# Altium schematic symbol library 0.5 - 按键_开关_蜂鸣器_保险丝_电池_测试点_Mark点_铜柱.SchLib: 51 symbols
Pins are listed as number, name and electrical type; pins without a type are passive.

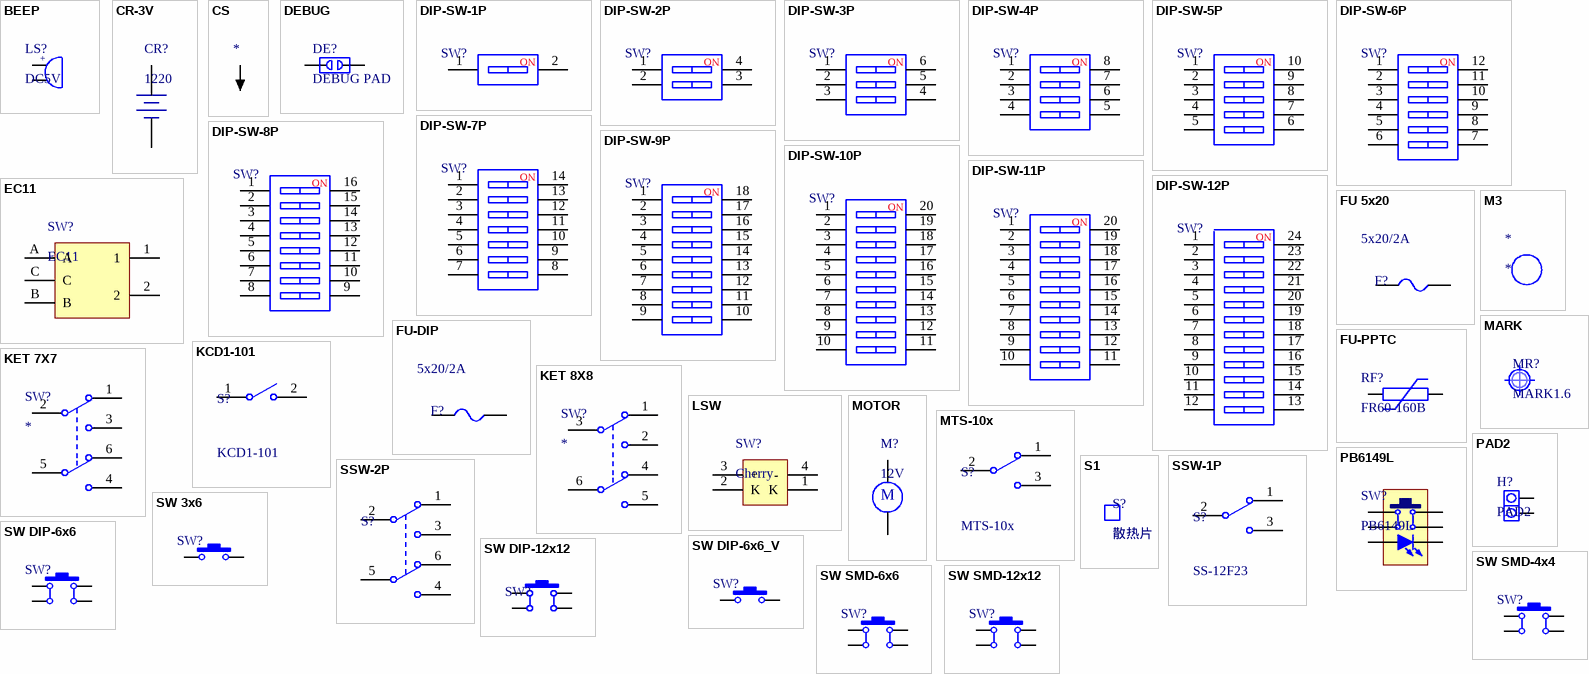
[diagram p0: symbols BEEP to SW SMD-12x12]

## BEEP
designator LS?, comment DC5V
蜂鸣器; 联系卖家，免费查找封装: 唯一出售店铺网址https://shop463601444.taobao.com; 封装库来自淘宝卖家：黄晶宝石: 其他店铺购入均为盗版封装库，请立即申请退款，本店现金奖励200~1000元; BOM名称: 蜂鸣器
footprint BEEP 6.5x12x6 (6.5*12*6mm(脚距,直径,高度))
footprint BEEP 5x9x5.5 (5*9*5.5mm(脚距,直径,高度))
footprint BEEP 6.5x12x8.5 (6.5*12*8.5mm(脚距,直径,高度))
footprint BEEP 7.6X12X7.5 (6.5*12*7.5mm(脚距,直径,高度))
footprint BEEP 7.6X12X9.5 (6.5*12*9.5mm(脚距,直径,高度))
pins: 1, 2
text: +

## CR-3V
designator CR?, comment 1220
微型电池; 联系卖家，免费查找封装: 唯一出售店铺网址https://shop463601444.taobao.com; 封装库来自淘宝卖家：黄晶宝石: 其他店铺购入均为盗版封装库，请立即申请退款，本店现金奖励200~1000元; BOM名称: 微型电池
footprint CR1220_A (纽扣电池座)
footprint CR1220_B (纽扣电池座)
footprint ML621FE (可充电纽扣电池)
footprint CR2032_A (纽扣电池座)
footprint CR2032_B (纽扣电池座)
pins: 1 DC+, 2 DC-

## CS
designator *
探针焊盘; 联系卖家，免费查找封装: 唯一出售店铺网址https://shop463601444.taobao.com; 封装库来自淘宝卖家：黄晶宝石: 其他店铺购入均为盗版封装库，请立即申请退款，本店现金奖励200~1000元; BOM名称: 探针焊盘
footprint R100 (R100探针焊盘)
pins: 1

## DEBUG
designator DE?, comment DEBUG PAD
调试断点焊盘; 联系卖家，免费查找封装: 唯一出售店铺网址https://shop463601444.taobao.com; 封装库来自淘宝卖家：黄晶宝石: 其他店铺购入均为盗版封装库，请立即申请退款，本店现金奖励200~1000元; BOM名称: 调试断点焊盘
footprint DEBUG_A (Footprint not found)
footprint DEBUG_B (调试断点焊盘)
pins: 1, 2

## DIP-SW-1P
designator SW?  (value not drawn)
1路编码开关; 联系卖家，免费查找封装: 唯一出售店铺网址https://shop463601444.taobao.com; 封装库来自淘宝卖家：黄晶宝石: 其他店铺购入均为盗版封装库，请立即申请退款，本店现金奖励200~1000元; BOM名称: 1路编码开关
footprint SW DIP-1P (4.1*9.9*7mm)
footprint SW DIP-1P_R (4.1*9.9*7mm)
pins: 1, 2
text: NO

## DIP-SW-2P
designator SW?  (value not drawn)
2路编码开关; 联系卖家，免费查找封装: 唯一出售店铺网址https://shop463601444.taobao.com; 封装库来自淘宝卖家：黄晶宝石: 其他店铺购入均为盗版封装库，请立即申请退款，本店现金奖励200~1000元; BOM名称: 2路编码开关
footprint SW DIP-2P (6.6*9.9*7mm)
footprint SW DIP-2P_R (6.6*9.9*7mm)
footprint SW1.27 SMD-2P (长：4.14mm，宽：5.4mm，高：2.3mm)
pins: 1, 2, 3, 4
text: NO

## DIP-SW-3P
designator SW?  (value not drawn)
3路编码开关; 联系卖家，免费查找封装: 唯一出售店铺网址https://shop463601444.taobao.com; 封装库来自淘宝卖家：黄晶宝石: 其他店铺购入均为盗版封装库，请立即申请退款，本店现金奖励200~1000元; BOM名称: 3路编码开关
footprint SW DIP-3P (9.2*9.9*7mm)
footprint SW DIP-3P_R (9.2*9.9*7mm)
footprint SW1.27 SMD-3P (长：5.41mm，宽：5.4mm，高：2.3mm           淘宝ID:黄晶宝石)
pins: 1, 2, 3, 4, 5, 6
text: NO

## DIP-SW-4P
designator SW?  (value not drawn)
4路编码开关; 联系卖家，免费查找封装: 唯一出售店铺网址https://shop463601444.taobao.com; 封装库来自淘宝卖家：黄晶宝石: 其他店铺购入均为盗版封装库，请立即申请退款，本店现金奖励200~1000元; BOM名称: 4路编码开关
footprint SW DIP-4P (11.7*9.9*7mm)
footprint SW DIP-4P_R (11.7*9.9*7mm)
footprint SW1.27 SMD-4P (长：6.68mm，宽：5.4mm，高：2.3mm)
pins: 1, 2, 3, 4, 5, 6, 7, 8
text: NO

## DIP-SW-5P
designator SW?  (value not drawn)
5路编码开关; 联系卖家，免费查找封装: 唯一出售店铺网址https://shop463601444.taobao.com; 封装库来自淘宝卖家：黄晶宝石: 其他店铺购入均为盗版封装库，请立即申请退款，本店现金奖励200~1000元; BOM名称: 5路编码开关
footprint SW DIP-5P (14.2*9.9*7mm)
footprint SW DIP-5P_R (14.2*9.9*7mm)
footprint SW1.27 SMD-5P (长：7.95mm，宽：5.4mm，高：2.3mm)
pins: 1, 2, 3, 4, 5, 6, 7, 8, 9, 10
text: NO

## DIP-SW-6P
designator SW?  (value not drawn)
6路编码开关; 联系卖家，免费查找封装: 唯一出售店铺网址https://shop463601444.taobao.com; 封装库来自淘宝卖家：黄晶宝石: 其他店铺购入均为盗版封装库，请立即申请退款，本店现金奖励200~1000元; BOM名称: 6路编码开关
footprint SW DIP-6P (16.8*9.9*7mm)
footprint SW DIP-6P_R (16.8*9.9*7mm)
footprint SW1.27 SMD-6P (长：9.22mm，宽：5.4mm，高：2.3mm)
pins: 1, 2, 3, 4, 5, 6, 7, 8, 9, 10, 11, 12
text: NO

## DIP-SW-7P
designator SW?  (value not drawn)
7路编码开关; 联系卖家，免费查找封装: 唯一出售店铺网址https://shop463601444.taobao.com; 封装库来自淘宝卖家：黄晶宝石: 其他店铺购入均为盗版封装库，请立即申请退款，本店现金奖励200~1000元; BOM名称: 7路编码开关
footprint SW DIP-7P (19.3*9.9*7mm)
footprint SW DIP-7P_G (Footprint not found)
pins: 1, 2, 3, 4, 5, 6, 7, 8, 9, 10, 11, 12, 13, 14
text: NO

## DIP-SW-8P
designator SW?  (value not drawn)
8路编码开关; 联系卖家，免费查找封装: 唯一出售店铺网址https://shop463601444.taobao.com; 封装库来自淘宝卖家：黄晶宝石: 其他店铺购入均为盗版封装库，请立即申请退款，本店现金奖励200~1000元; BOM名称: 8路编码开关
footprint SW DIP-8P (21.9*9.9*7mm)
footprint SW DIP-8P_R (21.9*9.9*7mm)
footprint SW1.27 SMD-8P (长：11.76mm，宽：5.4mm，高：2.3mm)
pins: 1, 2, 3, 4, 5, 6, 7, 8, 9, 10, 11, 12, 13, 14, 15, 16
text: NO

## DIP-SW-9P
designator SW?  (value not drawn)
9路编码开关; 联系卖家，免费查找封装: 唯一出售店铺网址https://shop463601444.taobao.com; 封装库来自淘宝卖家：黄晶宝石: 其他店铺购入均为盗版封装库，请立即申请退款，本店现金奖励200~1000元; BOM名称: 9路编码开关
footprint SW DIP-9P (21.4*9.9*7mm)
footprint SW DIP-9P_R (21.4*9.9*7mm)
pins: 1, 2, 3, 4, 5, 6, 7, 8, 9, 10, 11, 12, 13, 14, 15, 16, 17, 18
text: NO

## DIP-SW-10P
designator SW?  (value not drawn)
10路编码开关; 联系卖家，免费查找封装: 唯一出售店铺网址https://shop463601444.taobao.com; 封装库来自淘宝卖家：黄晶宝石: 其他店铺购入均为盗版封装库，请立即申请退款，本店现金奖励200~1000元; BOM名称: 10路编码开关
footprint SW DIP-10P (27*9.9*7mm)
footprint SW DIP-10P_R (27*9.9*7mm)
footprint SW1.27 SMD-10P (长：14.3mm，宽：5.4mm，高：2.3mm          淘宝ID:黄晶宝石)
pins: 1, 2, 3, 4, 5, 6, 7, 8, 9, 10, 11, 12, 13, 14, 15, 16, 17, 18, 19, 20
text: NO

## DIP-SW-11P
designator SW?  (value not drawn)
11路编码开关; BOM名称: 封装库来自淘宝 ID：黄晶宝石; 联系卖家，免费查找封装: 唯一出售店铺网址https://shop463601444.taobao.com; 封装库来自淘宝卖家：黄晶宝石: 其他店铺购入均为盗版封装库，请立即申请退款，本店现金奖励200~1000元
footprint SW DIP-11P (29.5*9.9*7mm           淘宝ID:黄晶宝石)
footprint SW DIP-11P_R (29.5*9.9*7mm            淘宝ID:黄晶宝石)
pins: 1, 2, 3, 4, 5, 6, 7, 8, 9, 10, 11, 12, 13, 14, 15, 16, 17, 18, 19, 20
text: NO

## DIP-SW-12P
designator SW?  (value not drawn)
12路编码开关; 联系卖家，免费查找封装: 唯一出售店铺网址https://shop463601444.taobao.com; 封装库来自淘宝卖家：黄晶宝石: 其他店铺购入均为盗版封装库，请立即申请退款，本店现金奖励200~1000元; BOM名称: 12路编码开关
footprint SW DIP-12P (32.1*9.9*7mm          淘宝ID:黄晶宝石)
footprint SW DIP-12P_R (32.1*9.9*7mm          淘宝ID:黄晶宝石)
pins: 1, 2, 3, 4, 5, 6, 7, 8, 9, 10, 11, 12, 13, 14, 15, 16, 17, 18, 19, 20, 21, 22, 23, 24
text: NO

## EC11
designator SW?
数字开关编码器; BOM名称: 数字编码开关; 联系卖家，免费查找封装: 唯一出售店铺网址https://shop463601444.taobao.com; 封装库来自淘宝卖家：黄晶宝石: 其他店铺购入均为盗版封装库，请立即申请退款，本店现金奖励200~1000元
footprint EC11 (数字开关编码器)
footprint EC11-B (数字开关编码器)
pins: 1, 2, A, B, C

## FU 5x20
designator F?, comment 5x20/2A
5*20保险丝; 联系卖家，免费查找封装: 唯一出售店铺网址https://shop463601444.taobao.com; 封装库来自淘宝卖家：黄晶宝石: 其他店铺购入均为盗版封装库，请立即申请退款，本店现金奖励200~1000元; BOM名称: 5*20保险丝
footprint FU BLX-A (BLX-A型保险丝座)
footprint FU 5x20 (5*20保险管底座夹子)
pins: 1, 2

## FU-DIP
designator F?, comment 5x20/2A
直插保险丝; 联系卖家，免费查找封装: 唯一出售店铺网址https://shop463601444.taobao.com; 封装库来自淘宝卖家：黄晶宝石: 其他店铺购入均为盗版封装库，请立即申请退款，本店现金奖励200~1000元; BOM名称: 直插保险丝
footprint FU 4x16 (4*16mm(直径，脚距）)
footprint FU 4x16_V (4*16mm(直径，脚距）)
pins: 1, 2

## FU-PPTC
designator RF?, comment FR60-160B
PPTC自恢复保险丝; 联系卖家，免费查找封装: 唯一出售店铺网址https://shop463601444.taobao.com; 封装库来自淘宝卖家：黄晶宝石: 其他店铺购入均为盗版封装库，请立即申请退款，本店现金奖励200~1000元; BOM名称: PPTC自恢复保险丝
footprint FR60-160B (直径15.5mm，厚度3mm，脚距5.1mm)
pins: 1, 2

## KCD1-101
designator S?
1路单刀船型开关; 联系卖家，免费查找封装: 唯一出售店铺网址https://shop463601444.taobao.com; 封装库来自淘宝卖家：黄晶宝石: 其他店铺购入均为盗版封装库，请立即申请退款，本店现金奖励200~1000元; BOM名称: 1路单刀船型开关
footprint KCD1-101 (船型开关立式)
pins: 1, 2

## KET 7X7
designator SW?
7*7自锁开关; 联系卖家，免费查找封装: 唯一出售店铺网址https://shop463601444.taobao.com; 封装库来自淘宝卖家：黄晶宝石: 其他店铺购入均为盗版封装库，请立即申请退款，本店现金奖励200~1000元; BOM名称: 7*7自锁开关
footprint KFT DIP-7X7 (自锁开关，规格：7*7mm)
pins: 1 NC1, 2 COM2, 3 NO1, 4 NO2, 5 COM2, 6 NC2

## KET 8X8
designator SW?
8*8自锁开关; 联系卖家，免费查找封装: 唯一出售店铺网址https://shop463601444.taobao.com; 封装库来自淘宝卖家：黄晶宝石: 其他店铺购入均为盗版封装库，请立即申请退款，本店现金奖励200~1000元; BOM名称: 8*8自锁开关
footprint KFT DIP-8X8 (自锁开关，规格：8*8mm)
pins: 1 NC1, 2 COM2, 3 NO1, 4 NO2, 5 COM2, 6 NC2

## LSW
designator SW?, comment Cherry
带灯机械按键开关; 联系卖家，免费查找封装: 唯一出售店铺网址https://shop463601444.taobao.com; 封装库来自淘宝卖家：黄晶宝石: 其他店铺购入均为盗版封装库，请立即申请退款，本店现金奖励200~1000元; BOM名称: 带灯机械按键开关
footprint LSW DIP-CHERRY
pins: 1 K, 2 K, 3 +, 4 -

## M3
designator *
铜柱孔; 联系卖家，免费查找封装: 唯一出售店铺网址https://shop463601444.taobao.com; 封装库来自淘宝卖家：黄晶宝石: 其他店铺购入均为盗版封装库，请立即申请退款，本店现金奖励200~1000元; BOM名称: 铜柱孔
footprint M3 140X350 (M3螺丝孔，孔140Mil，焊盘350Mil)
footprint M3 125X300 (M3螺丝孔，孔125Mil，焊盘300Mil)
footprint M3 125X200 (M3螺丝孔，孔125Mil，焊盘200Mil)

## MARK
designator MR?, comment MARK1.6
光学定位点; 联系卖家，免费查找封装: 唯一出售店铺网址https://shop463601444.taobao.com; 封装库来自淘宝卖家：黄晶宝石: 其他店铺购入均为盗版封装库，请立即申请退款，本店现金奖励200~1000元; BOM名称: 光学定位点
footprint Mark 1 (光学定位点，直径1mm)
footprint Mark 1.6 (光学定位点，直径1.6mm)

## MOTOR
designator M?, comment 12V
直流电机; 联系卖家，免费查找封装: 唯一出售店铺网址https://shop463601444.taobao.com; 封装库来自淘宝卖家：黄晶宝石: 其他店铺购入均为盗版封装库，请立即申请退款，本店现金奖励200~1000元; BOM名称: 直流电机
footprint XH2.54-LI-2P (接插件，2P)
pins: 1, 2
text: M

## MTS-10x
designator S?
MTS10x系列3脚扭子开关; 联系卖家，免费查找封装: 唯一出售店铺网址https://shop463601444.taobao.com; 封装库来自淘宝卖家：黄晶宝石: 其他店铺购入均为盗版封装库，请立即申请退款，本店现金奖励200~1000元; BOM名称: MTS10x系列3脚扭子开关
footprint MTS-10x (MTS10系列3脚扭子开关)
pins: 1, 2, 3

## PAD2
designator H?
引线焊盘; 联系卖家，免费查找封装: 唯一出售店铺网址https://shop463601444.taobao.com; 封装库来自淘宝卖家：黄晶宝石: 其他店铺购入均为盗版封装库，请立即申请退款，本店现金奖励200~1000元; BOM名称: 引线焊盘
footprint PAD2-5.08
footprint PAD2-2.54 (引线焊盘)
pins: 1, 2

## PB6149L
designator SW?
6*6自锁带灯开关; 联系卖家，免费查找封装: 唯一出售店铺网址https://shop463601444.taobao.com; 封装库来自淘宝卖家：黄晶宝石: 其他店铺购入均为盗版封装库，请立即申请退款，本店现金奖励200~1000元; BOM名称: 6*6自锁带灯开关
footprint PB6149L-6*6*18 (6mm*6mm*18mm(长*宽*高))
pins: 1, 2, 3, 4, L1 A, L2 K

## S1
designator S?, comment 散热片
联系卖家，免费查找封装: 唯一出售店铺网址https://shop463601444.taobao.com; 封装库来自淘宝卖家：黄晶宝石: 其他店铺购入均为盗版封装库，请立即申请退款，本店现金奖励200~1000元; BOM名称: 散热片
footprint SRP10-15-21 (10mm*15mm*21mm(长*宽*高))
footprint SRP10-15-21-P (10mm*15mm*21mm(长*宽*高))
footprint SRP10-15-21-W (10mm*15mm*21mm(长*宽*高))
footprint SRP10-15-25 (10mm*15mm*25mm(长*宽*高))
footprint SRP10-15-25-P (10mm*15mm*25mm(长*宽*高))
footprint SRP10-15-25-W (10mm*15mm*25mm(长*宽*高))
footprint SRP12-34-25-P (12mm*32mm*25mm(长*宽*高))
footprint SRP16-24-25 (16mm*24mm*25mm(长*宽*高))
footprint SRP16-24-25-P (16mm*24mm*25mm(长*宽*高))
footprint SRP16-24-25-W (16mm*24mm*25mm(长*宽*高))

## SSW-1P
designator S?, comment SS-12F23
1路波动开关; BOM名称: 波动开关; 联系卖家，免费查找封装: 唯一出售店铺网址https://shop463601444.taobao.com; 封装库来自淘宝卖家：黄晶宝石: 其他店铺购入均为盗版封装库，请立即申请退款，本店现金奖励200~1000元
footprint SS-12F23
footprint SS-12D10
footprint MSK-12C01-07 (6.7*2.8*1.5mm(长宽高）)
pins: 1, 2, 3

## SSW-2P
designator S?, comment SK-22D02  (value not drawn)
2路波动开关; BOM名称: 波动开关; 联系卖家，免费查找封装: 唯一出售店铺网址https://shop463601444.taobao.com; 封装库来自淘宝卖家：黄晶宝石: 其他店铺购入均为盗版封装库，请立即申请退款，本店现金奖励200~1000元
footprint SK-22D02 (10.4x6.1x4.2mm(长宽高)，脚距：2mm)
footprint SS-22H07-G2 (柄长2mm，12.7x7x4.7mm(长宽高)，脚距：4mm)
footprint SS-22H07-G3 (柄长3mm，12.7x7x4.7mm(长宽高)，脚距：4mm)
footprint SS-22H07-G4 (柄长4mm，12.7x7x4.7mm(长宽高)，脚距：4mm)
footprint SS-22H07-G5 (柄长5mm，12.7x7x4.7mm(长宽高)，脚距：4mm)
footprint SS-22H07-G6 (柄长6mm，12.7x7x4.7mm(长宽高)，脚距：4mm)
footprint SS-22H07-G7 (柄长7mm，12.7x7x4.7mm(长宽高)，脚距：4mm)
footprint SS-22H07-G8 (柄长8mm，12.7x7x4.7mm(长宽高)，脚距：4mm)
footprint SS-22H07-G9 (柄长9mm，12.7x7x4.7mm(长宽高)，脚距：4mm)
pins: 1, 2, 3, 4, 5, 6

## SW 3x6
designator SW?, comment 3x6x5  (value not drawn)
3x6轻触开关; 联系卖家，免费查找封装: 唯一出售店铺网址https://shop463601444.taobao.com; 封装库来自淘宝卖家：黄晶宝石: 其他店铺购入均为盗版封装库，请立即申请退款，本店现金奖励200~1000元; BOM名称: 3x6轻触开关
footprint SW SMD-3*6*2.5 (3*6*2.5mm)
footprint SW DIP-3*6*5_V (侧按轻触开关 3*6*5mm)
footprint SW DIP-3*6*4.3 (3*6*4.3mm)
footprint SW DIP-3*6*4.3_V (侧按轻触开关 3*6*4.3mm)
footprint SW DIP-3*6*5 (3*6*5mm)
footprint SW SMD-3*6*4.3 (3*6*4.3mm)
footprint SW SMD-3*6*5 (3*6*5mm)
footprint SW 3*6*4.3-S-W (侧立贴片3*6*4.3)
pins: 1, 2

## SW DIP-6x6
designator SW?, comment 6x6x5  (value not drawn)
直插6x6轻触开关; 联系卖家，免费查找封装: 唯一出售店铺网址https://shop463601444.taobao.com; 封装库来自淘宝卖家：黄晶宝石: 其他店铺购入均为盗版封装库，请立即申请退款，本店现金奖励200~1000元; BOM名称: 直插6x6轻触开关
footprint SW DIP-6*6*6 (6*6*6mm)
footprint SW DIP-6*6*4.3 (6*6*4.3mm)
footprint SW DIP-6*6*9 (6*6*9mm)
footprint SW DIP-6*6*5 (6*6*5mm)
footprint SW DIP-6*6*7 (6*6*7mm)
footprint SW DIP-6*6*8 (6*6*8mm)
footprint SW DIP-6*6*10 (6*6*10mm)
footprint SW DIP-6*6*11 (6*6*11mm)
footprint SW DIP-6*6*12 (6*6*12mm)
footprint SW DIP-6*6*13 (6*6*13mm)
footprint SW DIP-6*6*14 (6*6*14mm)
footprint SW DIP-6*6*15 (6*6*15mm)
pins: 1, 2, 3, 4

## SW DIP-6x6_V
designator SW?, comment 6x6x5  (value not drawn)
侧按直插6x6轻触开关; 联系卖家，免费查找封装: 唯一出售店铺网址https://shop463601444.taobao.com; 封装库来自淘宝卖家：黄晶宝石: 其他店铺购入均为盗版封装库，请立即申请退款，本店现金奖励200~1000元; BOM名称: 直插6x6轻触开关
footprint SW DIP-6*6*6_V (侧按轻触开关 6*6*6mm)
footprint SW DIP-6*6*4.3_V (侧按轻触开关 6*6*4.3mm)
footprint SW DIP-6*6*9_V (侧按轻触开关 6*6*9mm)
footprint SW DIP-6*6*5_V (侧按轻触开关 6*6*5mm)
footprint SW DIP-6*6*7_V (侧按轻触开关 6*6*7mm)
footprint SW DIP-6*6*8_V (侧按轻触开关 6*6*8mm)
footprint SW DIP-6*6*10_V (侧按轻触开关 6*6*10mm)
footprint SW DIP-6*6*11_V (侧按轻触开关 6*6*11mm)
footprint SW DIP-6*6*12_V (侧按轻触开关 6*6*12mm)
pins: 1, 2

## SW DIP-12x12
designator SW?, comment 12x12x5  (value not drawn)
直插12x12轻触开关; 联系卖家，免费查找封装: 唯一出售店铺网址https://shop463601444.taobao.com; 封装库来自淘宝卖家：黄晶宝石: 其他店铺购入均为盗版封装库，请立即申请退款，本店现金奖励200~1000元; BOM名称: 直插12x12轻触开关
footprint SW DIP-12*12*4.3 (12*12*4.3mm)
footprint SW DIP-12*12*5 (12*12*5mm)
footprint SW DIP-12*12*6 (12*12*6mm)
footprint SW DIP-12*12*7 (12*12*7mm)
footprint SW DIP-12*12*8 (12*12*8mm)
footprint SW DIP-12*12*9 (12*12*9mm)
footprint SW DIP-12*12*10 (12*12*10mm)
footprint SW DIP-12*12*11 (12*12*11mm)
footprint SW DIP-12*12*12 (12*12*12mm)
footprint SW DIP-12*12*13 (12*12*13mm)
pins: 1, 2, 3, 4

## SW SMD-4x4
designator SW?, comment 4x4x1.5  (value not drawn)
贴片4x4轻触开关; 联系卖家，免费查找封装: 唯一出售店铺网址https://shop463601444.taobao.com; 封装库来自淘宝卖家：黄晶宝石: 其他店铺购入均为盗版封装库，请立即申请退款，本店现金奖励200~1000元; BOM名称: 贴片4x4轻触开关
footprint SW SMD-4*4*1.5 (轻触开关，长宽高：4*4*1.5mm)
pins: 1, 2, 3, 4

## SW SMD-6x6
designator SW?, comment 6x6x5  (value not drawn)
贴片6x6轻触开关; 联系卖家，免费查找封装: 唯一出售店铺网址https://shop463601444.taobao.com; 封装库来自淘宝卖家：黄晶宝石: 其他店铺购入均为盗版封装库，请立即申请退款，本店现金奖励200~1000元; BOM名称: 贴片6x6轻触开关
footprint SW SMD-6*6*4.3 (6*6*4.3mm)
footprint SW SMD-6*6*5 (6*6*5mm)
footprint SW SMD-6*6*6 (6*6*6mm)
footprint SW SMD-6*6*7 (6*6*7mm)
footprint SW SMD-6*6*8 (6*6*8mm)
footprint SW SMD-6*6*9 (6*6*9mm)
footprint SW SMD-6*6*10 (6*6*10mm)
footprint SW SMD-6*6*12 (6*6*12mm)
footprint SW SMD-6*6*13 (6*6*13mm)
footprint SW SMD-6*6*14 (6*6*14mm)
footprint SW SMD-6*6*15 (6*6*15mm)
pins: 1, 2, 3, 4

## SW SMD-12x12
designator SW?, comment 12x12x5  (value not drawn)
贴片12x12轻触开关; 联系卖家，免费查找封装: 唯一出售店铺网址https://shop463601444.taobao.com; 封装库来自淘宝卖家：黄晶宝石: 其他店铺购入均为盗版封装库，请立即申请退款，本店现金奖励200~1000元; BOM名称: 贴片12x12轻触开关
footprint SW SMD-12*12*4.3 (12*12*4.3mm)
footprint SW SMD-12*12*5 (12*12*5mm)
footprint SW SMD-12*12*6 (12*12*6mm)
footprint SW SMD-12*12*7 (12*12*7mm)
footprint SW SMD-12*12*8 (12*12*8mm)
footprint SW SMD-12*12*9 (12*12*9mm)
footprint SW SMD-12*12*10 (12*12*10mm)
footprint SW SMD-12*12*11 (12*12*11mm)
footprint SW SMD-12*12*12 (12*12*12mm)
footprint SW SMD-12*12*13 (12*12*13mm)
pins: 1, 2, 3, 4

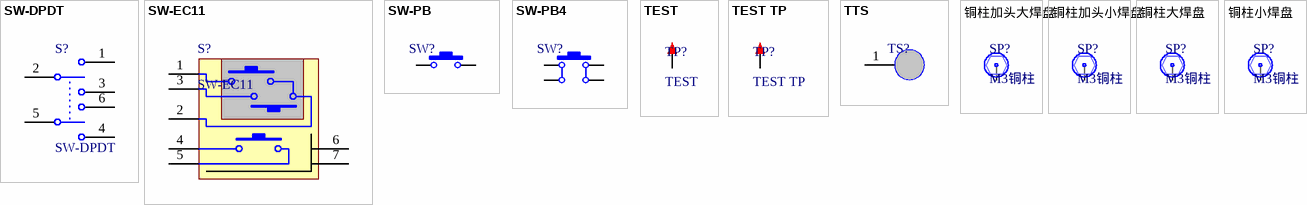
[diagram p1: symbols SW-DPDT to 铜柱小焊盘]

## SW-DPDT
designator S?
单刀双掷开关; 联系卖家，免费查找封装: 唯一出售店铺网址https://shop463601444.taobao.com; 封装库来自淘宝卖家：黄晶宝石: 其他店铺购入均为盗版封装库，请立即申请退款，本店现金奖励200~1000元
footprint SWITCH_B1 (单刀)
pins: 1, 2, 3, 4, 5, 6

## SW-EC11
designator S?
旋转编码开关; 联系卖家，免费查找封装: 唯一出售店铺网址https://shop463601444.taobao.com; 封装库来自淘宝卖家：黄晶宝石: 其他店铺购入均为盗版封装库，请立即申请退款，本店现金奖励200~1000元
footprint EC11
pins: 1, 2, 3, 4, 5, 6, 7

## SW-PB
designator SW?, comment 3x6x5  (value not drawn)
微动开关; BOM名称: 3x6轻触开关; 联系卖家，免费查找封装: 唯一出售店铺网址https://shop463601444.taobao.com; 封装库来自淘宝卖家：黄晶宝石: 其他店铺购入均为盗版封装库，请立即申请退款，本店现金奖励200~1000元
footprint SW SMD-3*6*2.5 (3*6*2.5mm)
footprint SW DIP-3*6*5_V (侧按轻触开关 3*6*5mm)
footprint SW DIP-3*6*4.3 (3*6*4.3mm)
footprint SW DIP-3*6*4.3_V (侧按轻触开关 3*6*4.3mm)
footprint SW DIP-3*6*5 (3*6*5mm)
footprint SW SMD-3*6*4.3 (3*6*4.3mm)
footprint SW SMD-3*6*5 (3*6*5mm)
footprint SW 3*6*4.3-S-W (侧立贴片3*6*4.3)
pins: 1, 2

## SW-PB4
designator SW?, comment 6x6x5  (value not drawn)
4脚微动开关; BOM名称: 直插6x6轻触开关; 联系卖家，免费查找封装: 唯一出售店铺网址https://shop463601444.taobao.com; 封装库来自淘宝卖家：黄晶宝石: 其他店铺购入均为盗版封装库，请立即申请退款，本店现金奖励200~1000元
footprint SW DIP-6*6*6 (6*6*6mm)
footprint SW DIP-6*6*4.3 (6*6*4.3mm)
footprint SW DIP-6*6*9 (6*6*9mm)
footprint SW DIP-6*6*5 (6*6*5mm)
footprint SW DIP-6*6*7 (6*6*7mm)
footprint SW DIP-6*6*8 (6*6*8mm)
footprint SW DIP-6*6*10 (6*6*10mm)
footprint SW DIP-6*6*11 (6*6*11mm)
footprint SW DIP-6*6*12 (6*6*12mm)
footprint SW DIP-6*6*13 (6*6*13mm)
footprint SW DIP-6*6*14 (6*6*14mm)
footprint SW DIP-6*6*15 (6*6*15mm)
pins: 1, 2, 3, 4

## TEST
designator TP?
测试点; 联系卖家，免费查找封装: 唯一出售店铺网址https://shop463601444.taobao.com; 封装库来自淘宝卖家：黄晶宝石: 其他店铺购入均为盗版封装库，请立即申请退款，本店现金奖励200~1000元; BOM名称: 测试点
footprint TEST 1 (测试点1mm)
footprint TEST 1.6 (测试点1.6mm)
footprint TEST 1.4 (测试点1.4mm)
footprint TEST 1.8 (测试点1.8mm)
footprint TEST 1.2 (测试点1.2mm)
footprint TEST 0.8 (测试点0.8mm)
footprint TEST 2.0 (测试点2.0mm)
footprint TEST 2.2 (测试点2.2mm)
footprint TEST 2.4 (测试点2.4mm)
footprint TEST 2.6 (测试点2.6mm)
pins: 1

## TEST TP
designator TP?
测试环; 联系卖家，免费查找封装: 唯一出售店铺网址https://shop463601444.taobao.com; 封装库来自淘宝卖家：黄晶宝石: 其他店铺购入均为盗版封装库，请立即申请退款，本店现金奖励200~1000元; BOM名称: 测试环
footprint TEST TP1.4_B (蓝色，测试环)
footprint TEST TP1.4_R (红色，测试环)
footprint TEST TP1.4_G (绿色，测试环)
footprint TEST TP1.4_W (白色，测试环)
footprint TEST TP1.4_Y (黄色，测试环)
footprint TEST TP1.4_BK (黑色，测试环)
pins: 1

## TTS
designator TS?, comment 12x16  (value not drawn)
触控弹簧; 联系卖家，免费查找封装: 唯一出售店铺网址https://shop463601444.taobao.com; 封装库来自淘宝卖家：黄晶宝石: 其他店铺购入均为盗版封装库，请立即申请退款，本店现金奖励200~1000元; BOM名称: 触控弹簧
footprint TS-H-12x16 (顶部直径：12mm，高：16mm)
pins: 1

## 铜柱加头大焊盘
designator SP?, comment M3铜柱
铜柱; 联系卖家，免费查找封装: 唯一出售店铺网址https://shop463601444.taobao.com; 封装库来自淘宝卖家：黄晶宝石: 其他店铺购入均为盗版封装库，请立即申请退款，本店现金奖励200~1000元; BOM名称: 铜柱
footprint M3x4+6_N (M3铜柱，长：4mm，螺纹长：6mm)
footprint M3x5+6_N (M3铜柱，长：5mm，螺纹长：6mm)
footprint M3x6+6_N (M3铜柱，长：6mm，螺纹长：6mm)
footprint M3x7+6_N (M3铜柱，长：7mm，螺纹长：6mm)
footprint M3x8+6_N (M3铜柱，长：8mm，螺纹长：6mm)
footprint M3x9+6_N (M3铜柱，长：9mm，螺纹长：6mm)
footprint M3x10+6_N (M3铜柱，长：10mm，螺纹长：6mm)
footprint M3x11+6_N (M3铜柱，长：11mm，螺纹长：6mm)
footprint M3x12+6_N (M3铜柱，长：12mm，螺纹长：6mm)
footprint M3x13+6_N (M3铜柱，长：13mm，螺纹长：6mm)
footprint M3x14+6_N (M3铜柱，长：14mm，螺纹长：6mm)
footprint M3x15+6_N (M3铜柱，长：15mm，螺纹长：6mm)
footprint M3x16+6_N (M3铜柱，长：16mm，螺纹长：6mm)
footprint M3x17+6_N (M3铜柱，长：17mm，螺纹长：6mm)
footprint M3x18+6_N (M3铜柱，长：18mm，螺纹长：6mm)
footprint M3x19+6_N (M3铜柱，长：19mm，螺纹长：6mm)
footprint M3x20+6_N (M3铜柱，长：20mm，螺纹长：6mm)
footprint M3x21+6_N (M3铜柱，长：21mm，螺纹长：6mm)
footprint M3x22+6_N (M3铜柱，长：22mm，螺纹长：6mm)
footprint M3x23+6_N (M3铜柱，长：23mm，螺纹长：6mm)
footprint M3x24+6_N (M3铜柱，长：24mm，螺纹长：6mm)
footprint M3x25+6_N (M3铜柱，长：25mm，螺纹长：6mm)
footprint M3x26+6_N (M3铜柱，长：26mm，螺纹长：6mm)
footprint M3x27+6_N (M3铜柱，长：27mm，螺纹长：6mm)
footprint M3x28+6_N (M3铜柱，长：28mm，螺纹长：6mm)
footprint M3x30+6_N (M3铜柱，长：30mm，螺纹长：6mm)
footprint M3x32+6_N (M3铜柱，长：32mm，螺纹长：6mm)
footprint M3x35+6_N (M3铜柱，长：35mm，螺纹长：6mm)
footprint M3x40+6_N (M3铜柱，长：40mm，螺纹长：6mm)
footprint M3x45+6_N (M3铜柱，长：45mm，螺纹长：6mm)
footprint M3x50+6_N (M3铜柱，长：50mm，螺纹长：6mm)
footprint M3x55+6_N (M3铜柱，长：55mm，螺纹长：6mm)
footprint M3x60+6_N (M3铜柱，长：60mm，螺纹长：6mm)
footprint M3x65+6_N (M3铜柱，长：65mm，螺纹长：6mm)
pins: 1

## 铜柱加头小焊盘
designator SP?, comment M3铜柱
铜柱; 联系卖家，免费查找封装: 唯一出售店铺网址https://shop463601444.taobao.com; 封装库来自淘宝卖家：黄晶宝石: 其他店铺购入均为盗版封装库，请立即申请退款，本店现金奖励200~1000元; BOM名称: 铜柱
footprint M3x4+6_L (M3铜柱，长：4mm，螺纹长：6mm)
footprint M3x5+6_L (M3铜柱，长：5mm，螺纹长：6mm)
footprint M3x6+6_L (M3铜柱，长：6mm，螺纹长：6mm)
footprint M3x7+6_L (M3铜柱，长：7mm，螺纹长：6mm)
footprint M3x8+6_L (M3铜柱，长：8mm，螺纹长：6mm)
footprint M3x9+6_L (M3铜柱，长：9mm，螺纹长：6mm)
footprint M3x10+6_L (M3铜柱，长：10mm，螺纹长：6mm)
footprint M3x11+6_L (M3铜柱，长：11mm，螺纹长：6mm)
footprint M3x12+6_L (M3铜柱，长：12mm，螺纹长：6mm)
footprint M3x13+6_L (M3铜柱，长：13mm，螺纹长：6mm)
footprint M3x14+6_L (M3铜柱，长：14mm，螺纹长：6mm)
footprint M3x15+6_L (M3铜柱，长：15mm，螺纹长：6mm)
footprint M3x16+6_L (M3铜柱，长：16mm，螺纹长：6mm)
footprint M3x17+6_L (M3铜柱，长：17mm，螺纹长：6mm)
footprint M3x18+6_L (M3铜柱，长：18mm，螺纹长：6mm)
footprint M3x19+6_L (M3铜柱，长：19mm，螺纹长：6mm)
footprint M3x20+6_L (M3铜柱，长：20mm，螺纹长：6mm)
footprint M3x21+6_L (M3铜柱，长：21mm，螺纹长：6mm)
footprint M3x22+6_L (M3铜柱，长：22mm，螺纹长：6mm)
footprint M3x23+6_L (M3铜柱，长：23mm，螺纹长：6mm)
footprint M3x24+6_L (M3铜柱，长：24mm，螺纹长：6mm)
footprint M3x25+6_L (M3铜柱，长：25mm，螺纹长：6mm)
footprint M3x26+6_L (M3铜柱，长：26mm，螺纹长：6mm)
footprint M3x27+6_L (M3铜柱，长：27mm，螺纹长：6mm)
footprint M3x28+6_L (M3铜柱，长：28mm，螺纹长：6mm)
footprint M3x30+6_L (M3铜柱，长：30mm，螺纹长：6mm)
footprint M3x32+6_L (M3铜柱，长：32mm，螺纹长：6mm)
footprint M3x35+6_L (M3铜柱，长：35mm，螺纹长：6mm)
footprint M3x40+6_L (M3铜柱，长：40mm，螺纹长：6mm)
footprint M3x45+6_L (M3铜柱，长：45mm，螺纹长：6mm)
footprint M3x50+6_L (M3铜柱，长：50mm，螺纹长：6mm)
footprint M3x55+6_L (M3铜柱，长：55mm，螺纹长：6mm)
footprint M3x60+6_L (M3铜柱，长：60mm，螺纹长：6mm)
footprint M3x65+6_L (M3铜柱，长：65mm，螺纹长：6mm)
pins: 1

## 铜柱大焊盘
designator SP?, comment M3铜柱
铜柱; 联系卖家，免费查找封装: 唯一出售店铺网址https://shop463601444.taobao.com; 封装库来自淘宝卖家：黄晶宝石: 其他店铺购入均为盗版封装库，请立即申请退款，本店现金奖励200~1000元; BOM名称: 铜柱
footprint M3x4_N (M3铜柱，长：4mm)
footprint M3x5_N (M3铜柱，长：5mm)
footprint M3x6_N (M3铜柱，长：6mm)
footprint M3x7_N (M3铜柱，长：7mm)
footprint M3x8_N (M3铜柱，长：8mm)
footprint M3x9_N (M3铜柱，长：9mm)
footprint M3x10_N (M3铜柱，长：10mm)
footprint M3x11_N (M3铜柱，长：11mm)
footprint M3x12_N (M3铜柱，长：12mm)
footprint M3x13_N (M3铜柱，长：13mm)
footprint M3x14_N (M3铜柱，长：14mm)
footprint M3x15_N (M3铜柱，长：15mm)
footprint M3x16_N (M3铜柱，长：16mm)
footprint M3x17_N (M3铜柱，长：17mm)
footprint M3x18_N (M3铜柱，长：18mm)
footprint M3x20_N (M3铜柱，长：20mm)
footprint M3x21_N (M3铜柱，长：21mm)
footprint M3x22_N (M3铜柱，长：22mm)
footprint M3x23_N (M3铜柱，长：23mm)
footprint M3x24_N (M3铜柱，长：24mm)
footprint M3x25_N (M3铜柱，长：25mm)
footprint M3x26_N (M3铜柱，长：26mm)
footprint M3x27_N (M3铜柱，长：27mm)
footprint M3x28_N (M3铜柱，长：28mm)
footprint M3x30_N (M3铜柱，长：30mm)
footprint M3x32_N (M3铜柱，长：32mm)
footprint M3x35_N (M3铜柱，长：35mm)
footprint M3x40_N (M3铜柱，长：40mm)
footprint M3x45_N (M3铜柱，长：45mm)
footprint M3x50_N (M3铜柱，长：50mm)
footprint M3x55_N (M3铜柱，长：55mm)
footprint M3x60_N (M3铜柱，长：60mm)
footprint M3x65_N (M3铜柱，长：65mm)
pins: 1

## 铜柱小焊盘
designator SP?, comment M3铜柱
铜柱; 联系卖家，免费查找封装: 唯一出售店铺网址https://shop463601444.taobao.com; 封装库来自淘宝卖家：黄晶宝石: 其他店铺购入均为盗版封装库，请立即申请退款，本店现金奖励200~1000元; BOM名称: 铜柱
footprint M3x4_L (M3铜柱，长：4mm)
footprint M3x5_L (M3铜柱，长：5mm)
footprint M3x6_L (M3铜柱，长：6mm)
footprint M3x7_L (M3铜柱，长：7mm)
footprint M3x8_L (M3铜柱，长：8mm)
footprint M3x9_L (M3铜柱，长：9mm)
footprint M3x10_L (M3铜柱，长：10mm)
footprint M3x11_L (M3铜柱，长：11mm)
footprint M3x12_L (M3铜柱，长：12mm)
footprint M3x13_L (M3铜柱，长：13mm)
footprint M3x14_L (M3铜柱，长：14mm)
footprint M3x15_L (M3铜柱，长：15mm)
footprint M3x16_L (M3铜柱，长：16mm)
footprint M3x17_L (M3铜柱，长：17mm)
footprint M3x18_L (M3铜柱，长：18mm)
footprint M3x19_L (M3铜柱，长：19mm)
footprint M3x20_L (M3铜柱，长：20mm)
footprint M3x21_L (M3铜柱，长：21mm)
footprint M3x22_L (M3铜柱，长：22mm)
footprint M3x23_L (M3铜柱，长：23mm)
footprint M3x24_L (M3铜柱，长：24mm)
footprint M3x25_L (M3铜柱，长：25mm)
footprint M3x26_L (M3铜柱，长：26mm)
footprint M3x27_L (M3铜柱，长：27mm)
footprint M3x28_L (M3铜柱，长：28mm)
footprint M3x30_L (M3铜柱，长：30mm)
footprint M3x32_L (M3铜柱，长：32mm)
footprint M3x35_L (M3铜柱，长：35mm)
footprint M3x40_L (M3铜柱，长：40mm)
footprint M3x45_L (M3铜柱，长：45mm)
footprint M3x50_L (M3铜柱，长：50mm)
footprint M3x55_L (M3铜柱，长：55mm)
footprint M3x60_L (M3铜柱，长：60mm)
footprint M3x65_L (M3铜柱，长：65mm)
pins: 1